# Altium schematic symbol library IND_PWR.Schlib: 1 symbol
Pins are listed as number, name and electrical type; pins without a type are passive.

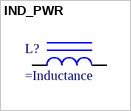
[diagram p0: symbol IND_PWR]

## IND_PWR
designator L?  (value not drawn)
=description; Value: =Inductance
pins: 1, 2